# EAGLE library part LT3028 (library pixhawk2)
LT3028 100mA/500mA low-dropout regulator
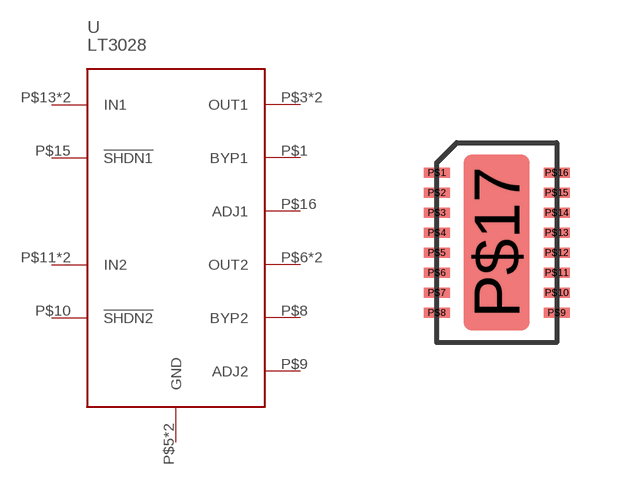
[diagram p75: symbol with the pads of DFN16+GND_5X3; footprint DFN16+GND_5X3]

Designator prefix U

## LT3028DFN16  [DFN16+GND_5X3]
P$1  BYP1
P$3  OUT1  pwr
P$4  OUT1  pwr
P$5  GND  pwr
P$6  OUT2  pwr
P$7  OUT2  pwr
P$8  BYP2
P$9  ADJ2  in
P$10  !SHDN2  in
P$11  IN2  pwr
P$12  IN2  pwr
P$13  IN1  pwr
P$14  IN1  pwr
P$15  !SHDN1  in
P$16  ADJ1  in
P$17  GND  pwr

## Footprint DFN16+GND_5X3 (pad centres in mm)
DFN16 5mm x 3mm with ground pad
smd 0.65 x 0.25: P$1 -1.5,1.75; P$2 -1.5,1.25; P$3 -1.5,0.75; P$4 -1.5,0.25; P$5 -1.5,-0.25; P$6 -1.5,-0.75; P$7 -1.5,-1.25; P$8 -1.5,-1.75; P$9 1.5,-1.75; P$10 1.5,-1.25; P$11 1.5,-0.75; P$12 1.5,-0.25; P$13 1.5,0.25; P$14 1.5,0.75; P$15 1.5,1.25; P$16 1.5,1.75
smd 1.65 x 4.4: P$17 0,0